# Altium footprint library ISA PC104.PcbLib: 7 footprints
Each footprint in its own frame and in the unit in brackets; x right, y up, seen from the top. Pads: shape width x height; smd on the part's side, far side on the other; paste and mask are expansions set on the pad; w line width, h text height; cw(c..) or ccw(c..) is an arc to the next point about the centre after c.
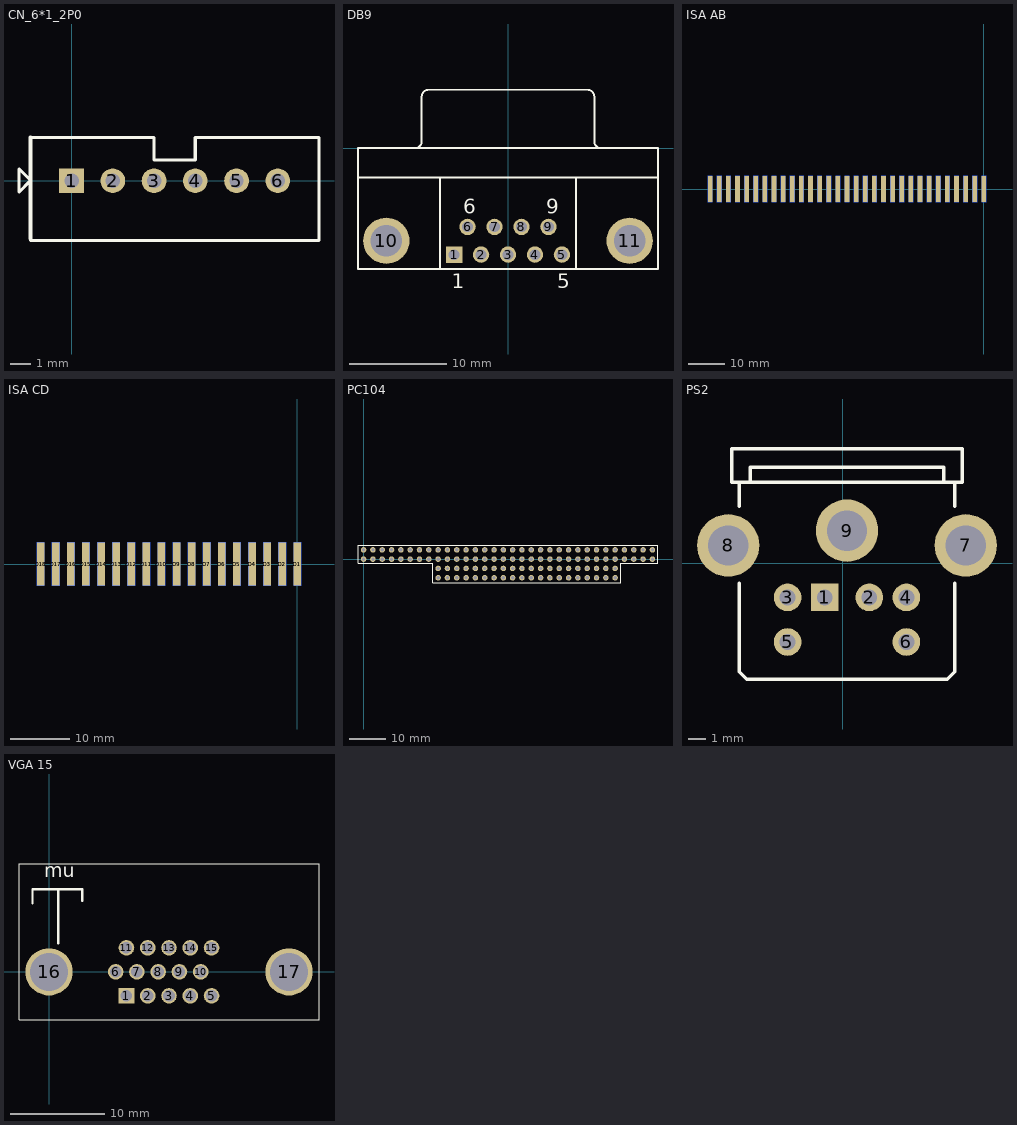
[diagram p0: the footprints below, top view; thin cyan lines are the x and y axes]

## CN_6*1_2P0 [mm]
pads (6):
  rect 1.2x1.2 hole 0.7: 1(0,0)
  round 1.2 hole 0.7: 2(2,0) 3(4,0) 4(6,0) 5(8,0) 6(10,0)
Top Overlay:
  lines w0.152: -2,-2.9 6,-2.9 12,-2.9 12,2.1 6,2.1 6,1 4,1 4,2.1 -2,2.1 ; -2,0 -2.55,-0.55 -2.55,0.575 -1.97,-0.005 -1.97,-0.1
  lines w0.2: -2,-2.8 -2,2.1

## DB9 [mm]
pads (11):
  rect 1.69x1.69 hole 1.09: 1(-5.54,-10.92)
  round 1.69 hole 1.09: 2(-2.77,-10.92) 3(0,-10.92) 4(2.77,-10.92) 5(5.54,-10.92) 6(-4.155,-8.08) 7(-1.385,-8.08) 8(1.385,-8.08) 9(4.155,-8.08)
  round 4.76 hole 3.26: 10(-12.495,-9.5) 11(12.495,-9.5)
Top Overlay:
  lines w0.2: -15.4,-3 15.4,-3 ; -9.56,0.005 ccw(c-9.56,0.7) -8.865,0.7 -8.865,5.3 ; -8.86,5.305 cw(c-8.165,5.305) -8.165,6 8.165,6 cw(c8.165,5.305) 8.86,5.305 ; -7,-12.4 -7,-3 ; 7,-12.4 7,-3 ; 8.865,5.3 8.865,0.7 ccw(c9.56,0.7) 9.56,0.005 ; -15.4,-12.4 -15.4,0 15.4,0 15.4,-12.4 -15.4,-12.4
  text "1" at -5.79,-14.375 h1.5
  text "5" at 5.04,-14.375 h1.5
  text "9" at 3.937,-6.731 h1.5
  text "6" at -4.572,-6.731 h1.5

## ISA AB [mil]
pads (62):
  rect 50x287 smd: A1(0,0) A2(-100,0) A3(-200,0) A4(-300,0) A5(-400,0) A6(-500,0) A7(-600,0) A8(-700,0) A9(-800,0) A10(-900,0) A11(-1000,0) A12(-1100,0) A13(-1200,0) A14(-1300,0) A15(-1400,0) A16(-1500,0) A17(-1600,0) A18(-1700,0) A19(-1800,0) A20(-1900,0) A21(-2000,0) A22(-2100,0) A23(-2200,0) A24(-2300,0) A25(-2400,0) A26(-2500,0) A27(-2600,0) A28(-2700,0) A29(-2800,0) A30(-2900,0) A31(-3000,0)
  rect 50x287 smd far side: B1(0,0) B2(-100,0) B3(-200,0) B4(-300,0) B5(-400,0) B6(-500,0) B7(-600,0) B8(-700,0) B9(-800,0) B10(-900,0) B11(-1000,0) B12(-1100,0) B13(-1200,0) B14(-1300,0) B15(-1400,0) B16(-1500,0) B17(-1600,0) B18(-1700,0) B19(-1800,0) B20(-1900,0) B21(-2000,0) B22(-2100,0) B23(-2200,0) B24(-2300,0) B25(-2400,0) B26(-2500,0) B27(-2600,0) B28(-2700,0) B29(-2800,0) B30(-2900,0) B31(-3000,0)

## ISA CD [mil]
pads (36):
  rect 50x287 smd: C1(0,0) C2(-100,0) C3(-200,0) C4(-300,0) C5(-400,0) C6(-500,0) C7(-600,0) C8(-700,0) C9(-800,0) C10(-900,0) C11(-1000,0) C12(-1100,0) C13(-1200,0) C14(-1300,0) C15(-1400,0) C16(-1500,0) C17(-1600,0) C18(-1700,0)
  rect 50x287 smd far side: D1(0,0) D2(-100,0) D3(-200,0) D4(-300,0) D5(-400,0) D6(-500,0) D7(-600,0) D8(-700,0) D9(-800,0) D10(-900,0) D11(-1000,0) D12(-1100,0) D13(-1200,0) D14(-1300,0) D15(-1400,0) D16(-1500,0) D17(-1600,0) D18(-1700,0)

## PC104 [mm]
pads (104):
  round 1.5 hole 0.9: A1(0,0) A2(2.54,0) A3(5.08,0) A4(7.62,0) A5(10.16,0) A6(12.7,0) A7(15.24,0) A8(17.78,0) A9(20.32,0) A10(22.86,0) A11(25.4,0) A12(27.94,0) A13(30.48,0) A14(33.02,0) A15(35.56,0) A16(38.1,0) A17(40.64,0) A18(43.18,0) A19(45.72,0) A20(48.26,0) A21(50.8,0) A22(53.34,0) A23(55.88,0) A24(58.42,0) A25(60.96,0) A26(63.5,0) A27(66.04,0) A28(68.58,0) A29(71.12,0) A30(73.66,0) A31(76.2,0) A32(78.74,0) B1(0,2.54) B2(2.54,2.54) B3(5.08,2.54) B4(7.62,2.54) B5(10.16,2.54) B6(12.7,2.54) B7(15.24,2.54) B8(17.78,2.54) B9(20.32,2.54) B10(22.86,2.54) B11(25.4,2.54) B12(27.94,2.54) B13(30.48,2.54) B14(33.02,2.54) B15(35.56,2.54) B16(38.1,2.54) B17(40.64,2.54) B18(43.18,2.54) B19(45.72,2.54) B20(48.26,2.54) B21(50.8,2.54) B22(53.34,2.54) B23(55.88,2.54) B24(58.42,2.54) B25(60.96,2.54) B26(63.5,2.54) B27(66.04,2.54) B28(68.58,2.54) B29(71.12,2.54) B30(73.66,2.54) B31(76.2,2.54) B32(78.74,2.54) C0(20.32,-2.54) C1(22.86,-2.54) C2(25.4,-2.54) C3(27.94,-2.54) C4(30.48,-2.54) C5(33.02,-2.54) C6(35.56,-2.54) C7(38.1,-2.54) C8(40.64,-2.54) C9(43.18,-2.54) C10(45.72,-2.54) C11(48.26,-2.54) C12(50.8,-2.54) C13(53.34,-2.54) C14(55.88,-2.54) C15(58.42,-2.54) C16(60.96,-2.54) C17(63.5,-2.54) C18(66.04,-2.54) C19(68.58,-2.54) D0(20.32,-5.08) D1(22.86,-5.08) D2(25.4,-5.08) D3(27.94,-5.08) D4(30.48,-5.08) D5(33.02,-5.08) D6(35.56,-5.08) D7(38.1,-5.08) D8(40.64,-5.08) D9(43.18,-5.08) D10(45.72,-5.08) D11(48.26,-5.08) D12(50.8,-5.08) D13(53.34,-5.08) D14(55.88,-5.08) D15(58.42,-5.08) D16(60.96,-5.08) D17(63.5,-5.08) D18(66.04,-5.08) D19(68.58,-5.08)
Top Overlay:
  lines w0.152: -1.524,-1.143 -1.524,3.857 80.264,3.857 80.264,-1.143 70.104,-1.143 70.104,-6.5 18.796,-6.5 18.796,-1.143 -1.524,-1.143

## PS2 [mil]
pads (9):
  rect 62x62 hole 35.43: 1(-41,-77)
  round 62 hole 35.43: 2(59,-77) 3(-124.33,-77) 4(142.33,-77) 5(-124.33,-177) 6(142.33,-177)
  round 140 hole 90.55: 7(275.67,39.67) 8(-257.67,39.67) 9(9,73)
Bottom Layer:
  lines w10: 141.33,-178 142.33,-177
Top Overlay:
  lines w8: -232.67,-45.5 -232.67,-243.67 -216,-260.33 234,-260.33 250.67,-243.67 250.67,-45.5 ; -232.67,127.72 -232.67,181.33 ; 250.67,127.72 250.67,181.33 ; -207.67,181.33 225.67,181.33 ; -207.67,181.33 -249.33,181.33 -249.33,256.33 267.33,256.33 267.33,181.33 225.67,181.33 ; -207.67,181.33 -207.67,214.67 225.67,214.67 225.67,181.33

## VGA 15 [mil]
pads (17):
  rect 65x65 hole 48: 1(322.83,-100)
  round 65 hole 48: 2(411.42,-100) 3(500,-100) 4(588.58,-100) 5(677.16,-100) 6(277.83,0) 7(366.42,0) 8(455,0) 9(543.58,0) 10(632.16,0) 11(322.83,100) 12(411.42,100) 13(500,100) 14(588.58,100) 15(677.16,100)
  round 196.85 hole 157.48: 16(0,0) 17(1000,0)
Top Overlay:
  lines w5: -125,-200 -125,450 1125,450 1125,-200 -125,-200
  lines w10: -68.9,285.43 -68.9,344.49 39.37,344.49 ; 39.37,118.11 39.37,344.49 ; 137.8,295.28 137.8,344.49 39.37,344.49
  text "mu" at -19.68,374.02 h100